# Altium schematic symbol library SPres.SchLib: 1 symbol
Pins are listed as number, name and electrical type; pins without a type are passive.

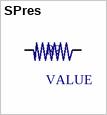
[diagram p0: symbol SPres]

## SPres
designator R?, comment VALUE
footprint PCBComponent_1
pins: 1, 2